# Altium footprint library RF.PcbLib: 28 footprints (part 1 of 2)
Each footprint in its own frame and in the unit in brackets; x right, y up, seen from the top. Pads: shape width x height; smd on the part's side, far side on the other; paste and mask are expansions set on the pad; w line width, h text height; cw(c..) or ccw(c..) is an arc to the next point about the centre after c.
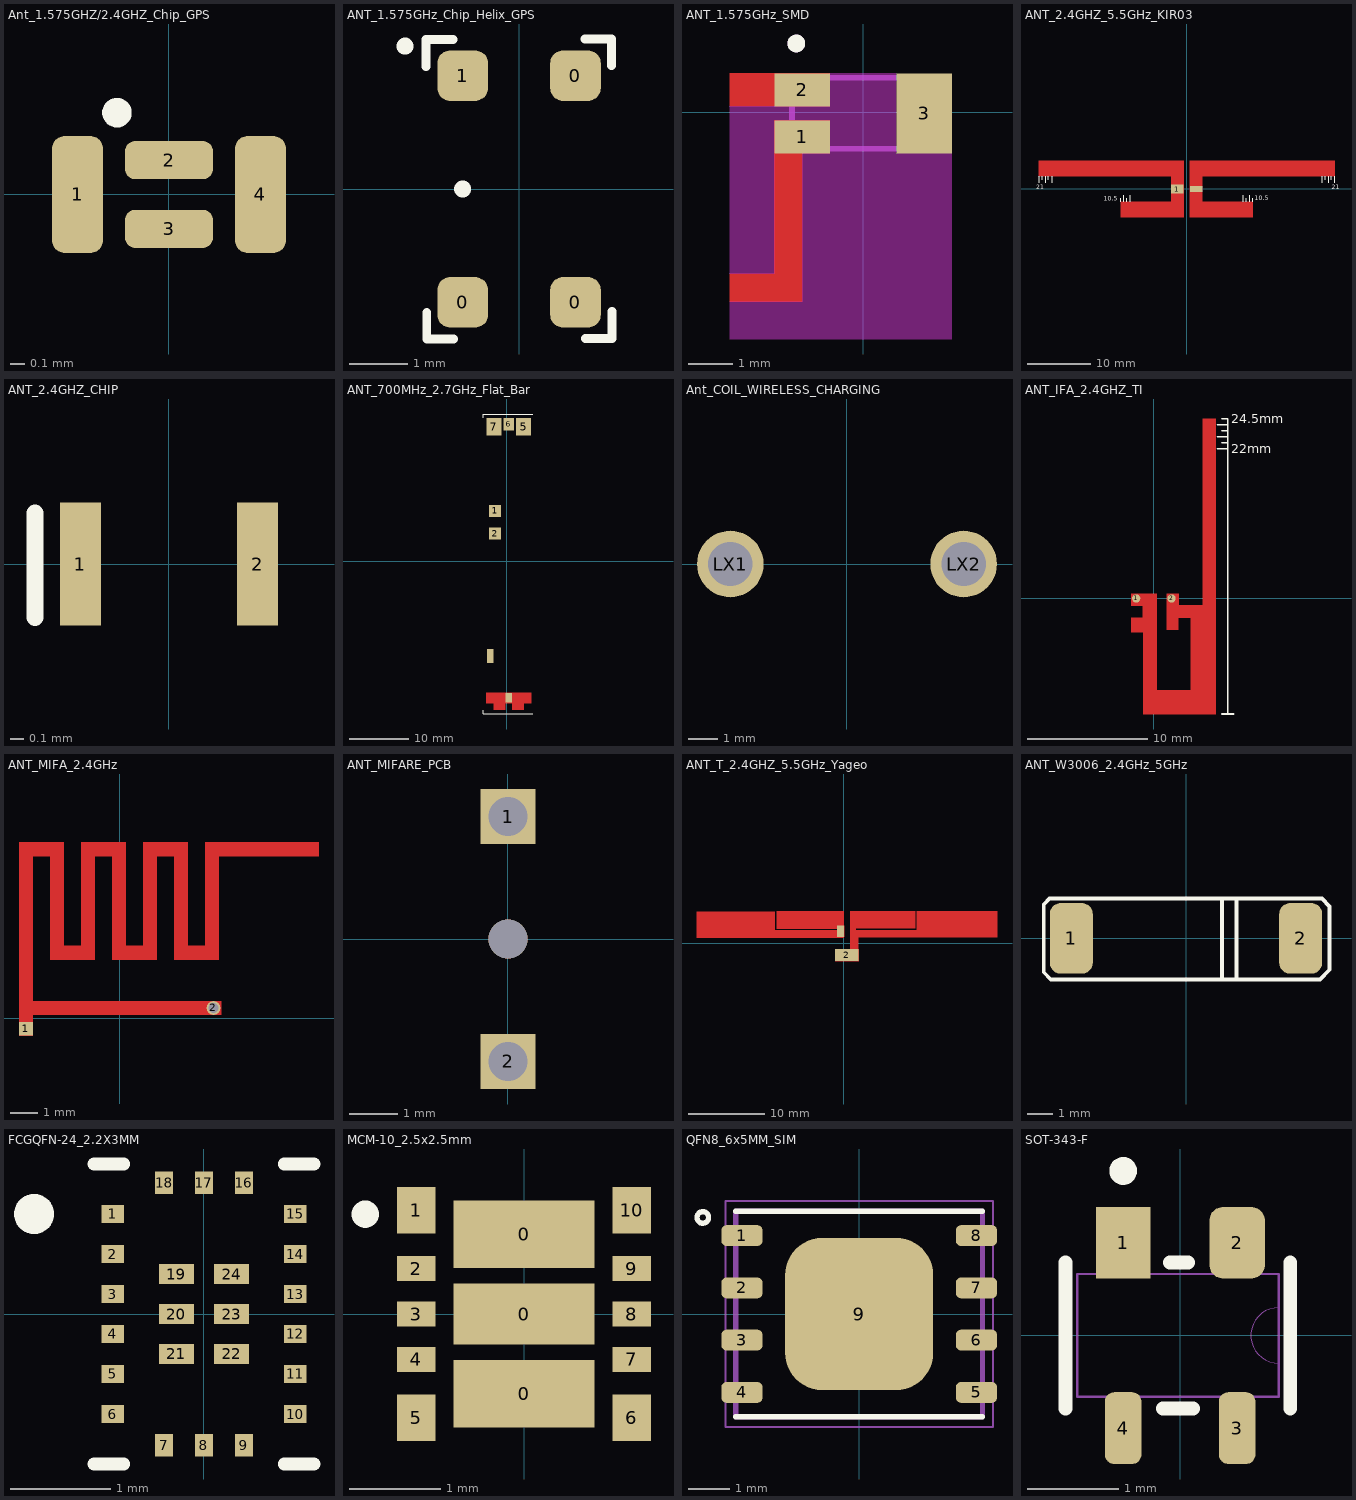
[diagram p0: the footprints below, top view; thin cyan lines are the x and y axes]

## Ant_1.575GHZ/2.4GHZ_Chip_GPS [mm] "/20210422/C-D Viveros"
pads (4):
  rrect50% 0.35x0.8 smd mask+0.05: 1(-0.625,0) 4(0.625,0)
  rrect50% 0.6x0.26 smd mask+0.05: 2(0,0.235) 3(0,-0.235)
Top Overlay:
  circle w0.1: c-0.356,0.559 r0.051
3D body "User Library-ANT016008LCS2442MA2.STEP": height 0.41, standoff 0, extent -0.8,-0.4 0.8,0.4

## ANT_1.575GHz_Chip_Helix_GPS [mm] "/20201007/J-E.Pachon"
pads (4):
  rrect50% 0.87x0.87 smd: 0(-0.97,-1.95) 0(0.97,-1.95) 0(0.97,1.95) 1(-0.97,1.95)
Top Overlay:
  circle w0.25: c-0.97,0 r0.02
  circle w0.25: c-1.961,2.458 r0.02
  lines w0.15: -1.6,2.108 -1.6,2.57 -1.138,2.57 ; -1.59,-2.118 -1.59,-2.58 -1.128,-2.58 ; 1.128,2.58 1.59,2.58 1.59,2.118 ; 1.138,-2.57 1.6,-2.57 1.6,-2.108
3D body "1462350001.stp": height 4, standoff 0, extent -1.549,-2.555 1.521,2.515

## ANT_1.575GHz_SMD [mm] "20230919/J-E.Pachon"
pads (3):
  rect 1.25x0.74 smd: 1(-1.375,-0.555) 2(-1.375,0.505)
  rect 1.25x1.8 smd: 3(1.375,-0.025)
Top Layer:
  region: -0.75,-0.925 -1.37,-0.925 -1.37,-4.265 -3,-4.265 -3,-3.635 -2,-3.635 -2,-0.185 -0.75,-0.185
  region: -0.75,0.135 -3,0.135 -3,0.875 -0.75,0.875
Top Overlay:
  circle w0.2: c-1.505,1.55 r0.1
Keep-Out Layer:
  region: 0.75,-0.925 2,-0.925 2,-5.105 -1.37,-5.105 -1.37,-0.925 -0.75,-0.925 -0.75,-0.185 -2,-0.185 -2,-3.635 -3,-3.635 -3,0.135 -0.75,0.135 -0.75,0.875 0.75,0.875
  region: -1.219,-5.105 -3,-5.105 -3,-4.265 -1.219,-4.265
Mechanical 13:
  circle w0.2: c-1.505,1.55 r0.1
  lines w0.127: -1.6,-0.825 1.6,-0.825 1.6,0.775 -1.6,0.775 -1.6,-0.825
3D body "step_temp.STEP": height 0.61, standoff 0.01, extent -1.346,-0.825 1.854,0.775

## ANT_2.4GHZ_5.5GHz_KIR03 [mm] "/20220325/V-A.Patino"
pads (2):
  rect 2x1.5 smd: 1(-1.5,0)
  rect 2x1 smd: 2(1.5,0)
Top Layer:
  region: -2.5,-2 -2.5,2 -23.5,2 -23.5,4.5 -0.5,4.5 -0.5,-4.5 -10.5,-4.5 -10.5,-2
  region: 2.5,-2 2.5,2 23.5,2 23.5,4.5 0.5,4.5 0.5,-4.5 10.5,-4.5 10.5,-2
Top Overlay:
  lines w0.127: -23.5,1 -23.5,2 ; -23,1.5 -23,2 ; -22.5,1 -22.5,2 ; -22,1.5 -22,2 ; -21.5,1 -21.5,2 ; -10.5,-2 -10.5,-1.5 ; -10,-2 -10,-1.033 ; -9.5,-2 -9.5,-1.5 ; -9,-2 -9,-1 ; 9,-2 9,-1 ; 9.5,-2 9.5,-1.5 ; 10,-2 10,-1.033 ; 10.5,-2 10.5,-1.5 ; 21.5,1 21.5,2 ; 22,1.5 22,2 ; 22.5,1 22.5,2 ; 23,1.5 23,2 ; 23.5,1 23.5,2
  text "10.5" at -13.182,-1.9 h0.7
  text "21" at -23.967,0 h0.7
  text "10.5" at 10.8,-1.8 h0.7
  text "21" at 23.033,0 h0.7

## ANT_2.4GHZ_CHIP [mm] "/20210113/J-E.Pachon"
pads (2):
  rect 0.3x0.9 smd: 1(-0.65,0) 2(0.65,0)
Top Overlay:
  lines w0.127: -0.983,-0.389 -0.983,0.373
3D body: height 0.4, standoff 0, extent -0.792,-0.429 0.813,0.429

## ANT_700MHz_2.7GHz_Flat_Bar [mm] "/20201007/J-E.Pachon"
pads (7):
  rect 2x2 smd: 1(-1.965,8.459) 2(-1.965,4.649)
  rect 1.1x1.6 smd: 3(0.325,-23.026)
  rect 1.1x2.3 smd: 4(-2.825,-15.981)
  rect 2.483x2.9 smd: 5(2.825,22.619)
  rect 1.7x2.1 smd: 6(0.325,23.026)
  rect 2.5x2.9 smd: 7(-2.175,22.616)
Top Layer:
  region: 2.875,-23.926 2.875,-22.126 4.075,-22.126 4.075,-23.926
  region: -3.425,-23.926 -3.425,-22.126 -2.225,-22.126 -2.225,-23.926
  region: -2.225,-25.026 -2.225,-22.126 -0.225,-22.126 -0.225,-25.026
  region: 0.875,-25.026 0.875,-22.126 2.875,-22.126 2.875,-25.026
  region: -0.225,-23.926 -0.225,-22.126 0.875,-22.126 0.875,-23.926
Top Overlay:
  lines w0.2: -3.929,-25.106 -3.929,-25.731 4.371,-25.731 ; -3.929,24.144 -3.929,24.769 4.371,24.769
Top Solder:
  region: 0.875,-25.031 0.875,-22.131 2.875,-22.131 2.875,-25.031
  region: -2.225,-25.031 -2.225,-22.131 -0.225,-22.131 -0.225,-25.031
  region: -3.425,-23.931 -3.425,-22.131 -2.225,-22.131 -2.225,-23.931
  region: 2.875,-23.931 2.875,-22.131 4.075,-22.131 4.075,-23.931
3D body: height 3.2, standoff 0, extent -3.667,-25.539 4.333,24.461

## Ant_COIL_WIRELESS_CHARGING [mil] "20220805 / E.Naranjo"
pads (2):
  round 90 hole 60 mask+4: LX1(-157.48,0) LX2(157.48,0)

## ANT_IFA_2.4GHZ_TI [mil] "/ 20190228 / C-A.Serna.A"
pads (2):
  round 27 smd paste-100 mask+0: 1(-57.74,0) 2(57.74,0)
Top Layer:
  region: -73.49,-109.54 -73.49,-62.99 -36.75,-62.99 -36.75,-23.62 -73.49,-23.62 -73.49,15.75 9.19,15.75 9.19,-299.21 120.73,-299.21 120.73,-62.29 80.06,-62.29 80.06,-102.36 41.99,-102.36 41.99,15.75 81.36,15.75 81.36,-22.92 158.8,-22.92 158.79,587.32 202.1,587.31 202.1,-377.25 -34.12,-377.25 -34.12,-109.54
Top Overlay:
  lines w5: 206.2,488.89 241.47,488.89 ; 206.2,528.26 241.47,528.26 ; 206.2,567.63 241.47,567.63 ; 221.79,-377.25 261.16,-377.25 ; 221.79,508.57 241.47,508.57 ; 221.79,547.94 241.47,547.94 ; 221.79,587.31 241.47,587.31 241.47,-377.25
  text "24.5mm" at 253.28,572.32 h30
  text "22mm" at 253.28,473.89 h30

## ANT_MIFA_2.4GHz [mil] "/20200103/C-A.Serna.A"
pads (2):
  rect 20x20 smd paste-10 mask+4: 1(-136,-15)
  round 20 hole 15 paste-10 mask+4: 2(136,15)
Top Layer:
  region: -146,-25 -146,255 -81,255 -81,105 -56,105 -56,255 9,255 9,105 34,105 34,255 99,255 99,105 124,105 124,255 289,255 289,235 144,235 144,85 79,85 79,235 54,235 54,85 -11,85 -11,235 -36,235 -36,85 -101,85 -101,235 -126,235 -126,25 147,25 147,5 -126,5 -126,-25

## ANT_MIFARE_PCB [mil] "/20200227/V-A.Patino"
pads (3):
  rect 45x45 hole 32: 1(0,100) 2(0,-100)
  round 32 hole 32 unplated: ""(0,0)
3D body "MIFARE-Antenna_V2R1.step": height 0, standoff -16.2, extent -2106.3,-1279.52 39.37,1279.53

## ANT_T_2.4GHZ_5.5GHz_Yageo [mm] "/ 20200619 / N-A.Potosi"
pads (2):
  rect 0.902x1.502 smd mask+0.051: 1(-0.408,1.572)
  rect 3.102x1.602 smd mask+0.051: 2(0.408,-1.572)
Top Layer:
  region: -1.143,-0.771 -1.143,-2.373 1.959,-2.373 1.959,-0.771 1.907,-0.771 1.907,0.758 20.226,0.758 20.226,4.228 9.667,4.228 9.667,1.719 1.59,1.719 1.59,1.976 9.426,1.976 9.426,4.228 0.835,4.228 0.835,-0.771
  region: -19.355,4.175 -19.355,0.698 0.018,0.698 0.018,0.821 0.043,0.821 0.043,2.323 0.018,2.323 0.018,4.206 -8.825,4.206 -8.825,1.936 -0.858,1.936 -0.858,1.688 -9.073,1.688 -9.073,4.175
3D body: height 0.01, standoff 0, extent -19.355,0.698 0.043,4.206
3D body: height 0.01, standoff 0, extent -1.143,-2.373 20.226,4.228

## ANT_W3006_2.4GHz_5GHz [mm] "/20200812/M-C.Calderon"
pads (2):
  rrect50% 1.7x2.8 smd: 1(-4.547,0) 2(4.547,0)
Top Overlay:
  lines w0.152: 1.422,-1.575 1.422,1.524 ; 2.007,-1.626 2.007,1.549 ; -5.639,-1.346 -5.639,1.346 -5.41,1.575 5.385,1.575 5.69,1.27 5.69,-1.245 5.309,-1.626 -5.359,-1.626 -5.639,-1.346
3D body: height 1.5, standoff 0, extent -5.016,-1.702 5.067,1.499

## FCGQFN-24_2.2X3MM [mm] "/20220721/N-A.Potosi"
pads (24):
  rect 0.225x0.18 smd paste+0: 1(-0.913,1) 2(-0.913,0.6) 3(-0.913,0.2) 4(-0.913,-0.2) 5(-0.913,-0.6) 6(-0.913,-1) 10(0.913,-1) 11(0.913,-0.6) 12(0.913,-0.2) 13(0.913,0.2) 14(0.913,0.6) 15(0.913,1)
  rect 0.18x0.225 smd paste+0: 7(-0.4,-1.312) 8(0,-1.312) 9(0.4,-1.312) 16(0.4,1.312) 17(0,1.312) 18(-0.4,1.312)
  rect 0.35x0.2 smd paste+0: 19(-0.275,0.4) 20(-0.275,0) 21(-0.275,-0.4) 22(0.275,-0.4) 23(0.275,0) 24(0.275,0.4)
Top Overlay:
  circle w0.2: c-1.7,1 r0.1
  lines w0.127: -1.1,-1.5 -0.804,-1.5 ; -1.1,1.5 -0.804,1.5 ; 0.804,-1.5 1.1,-1.5 ; 0.804,1.5 1.1,1.5
3D body "DA14531-00000FX2--3DModel-STEP-56544.STEP": height 0.66, standoff -0.04, extent -1.1,-1.5 1.1,1.5

## MCM-10_2.5x2.5mm [mm] "/20220615/V-A.Patino"
pads (13):
  rect 1.55x0.745 smd: 0(0,-0.877) 0(0,0.878)
  rect 1.55x0.67 smd: 0(0,0)
  rect 0.425x0.515 smd: 1(-1.188,1.143) 5(-1.188,-1.143) 6(1.188,-1.143) 10(1.188,1.143)
  rect 0.425x0.275 smd: 2(-1.188,0.5) 3(-1.188,0) 4(-1.188,-0.5) 7(1.188,-0.5) 8(1.188,0) 9(1.188,0.5)
Top Overlay:
  lines w0.2: -1.8,1.1 cw(c-1.75,1.1) -1.7,1.1 cw(c-1.75,1.1) -1.8,1.1
3D body "SKY65943-11.stp": height 0.8, standoff 0, extent -1.25,-1.25 1.25,1.25

## QFN8_6x5MM_SIM [mm] "/20210524/ J-E.Pachon"
pads (9):
  rrect50% 1x0.51 smd paste+0: 1(-2.85,1.905) 2(-2.85,0.635) 3(-2.85,-0.635) 4(-2.85,-1.905) 5(2.85,-1.905) 6(2.85,-0.635) 7(2.85,0.635) 8(2.85,1.905)
  rrect50% 3.6x3.7 smd paste+0: 9(0,0)
Top Overlay:
  circle w0.127: c-3.8,2.347 r0.141
  lines w0.127: -3,-2.5 3,-2.5 ; -3,2.5 3,2.5
Mechanical 1:
  lines w0.127: -3,-2.5 -3,2.5 3,2.5 3,-2.5 -3,-2.5
Mechanical 15:
  lines w0.05: -3.25,-2.75 -3.25,2.75 3.25,2.75 3.25,-2.75 -3.25,-2.75
3D body "SIM-ST-MFF2--3DModel-STEP-56544.STEP": height 0.83, standoff 0.01, extent -3,-2.5 3,2.5

## SOT-343-F [mm] "20230919/J-E.Pachon"
pads (4):
  rect 0.6x0.787 smd: 1(-0.625,1.016)
  rrect50% 0.61x0.787 smd: 2(0.625,1.016)
  rrect50% 0.4x0.787 smd: 3(0.625,-1.016) 4(-0.625,-1.016)
Top Overlay:
  circle w0.152: c-0.625,1.803 r0.076
  lines w0.152: -1.257,-0.8 -1.257,0.8 ; -0.19,-0.8 0.14,-0.8 ; -0.111,0.8 0.089,0.8 ; 1.207,-0.8 1.207,0.8
Mechanical 13:
  lines w0: 1.08,-0.305 cw(c1.08,0) 1.08,0.305
  lines w0.025: -1.13,-0.673 -1.13,0.673 1.08,0.673 1.08,-0.673 -1.13,-0.673
3D body: height 0.6, standoff 0, extent -1.135,-1.18 1.064,1.13